# Altium schematic symbol library SCH - POWER - LINEAR VREG - L7805CV.SchLib: 1 symbol
Pins are listed as number, name and electrical type; pins without a type are passive.

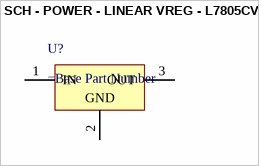
[diagram p0: symbol SCH - POWER - LINEAR VREG - L7805CV]

## SCH - POWER - LINEAR VREG - L7805CV
designator U?
pins: 1 IN (power), 2 GND (power), 3 OUT (power)